# EAGLE library part M633 (library dec-m)
6 Dual Negative Bus Drivers
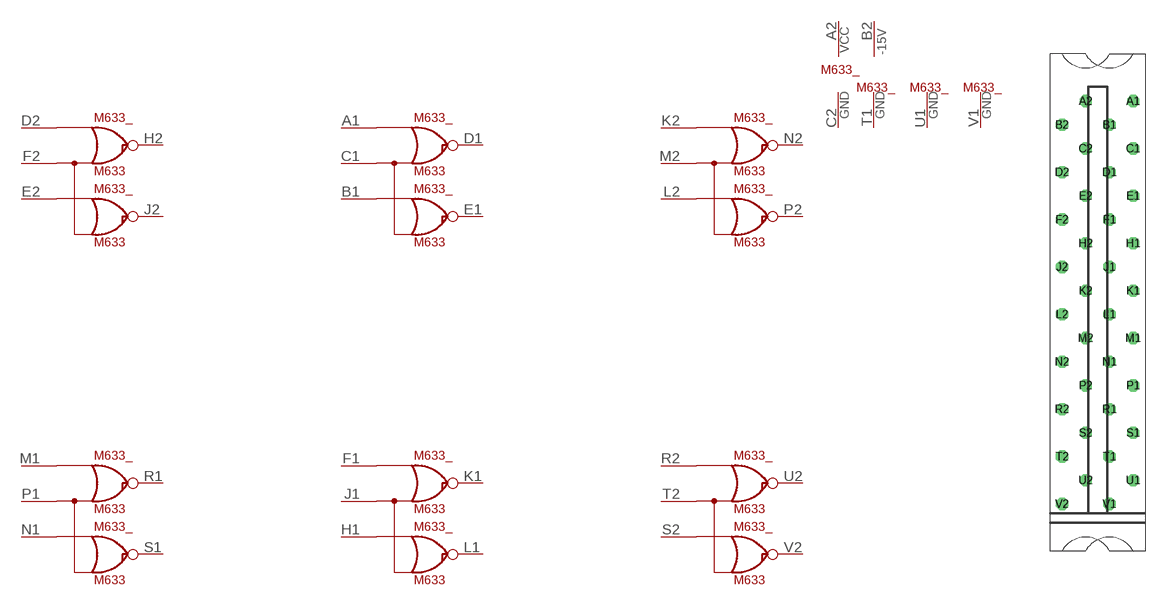
[diagram p20: symbol with the pads of H807; footprint H807]

Designator prefix M633_; gates D1=M633A K1=M633A R1=M633A H2=M633A N2=M633A U2=M633A G$7=POWER G$8=-15V G$9=T1GND G$10=T1GND G$11=T1GND

## M633  [H807]
A1  D1:A  in
A2  G$7:VCC  pwr
B1  D1:B  in
B2  G$8:-15V  pwr
C1  D1:C  in
C2  G$7:GND  pwr
D1  D1:D  out
D2  H2:A  in
E1  D1:E  out
E2  H2:B  in
F1  K1:A  in
F2  H2:C  in
H1  K1:B  in
H2  H2:D  out
J1  K1:C  in
J2  H2:E  out
K1  K1:D  out
K2  N2:A  in
L1  K1:E  out
L2  N2:B  in
M1  R1:A  in
M2  N2:C  in
N1  R1:B  in
N2  N2:D  out
P1  R1:C  in
P2  N2:E  out
R1  R1:D  out
R2  U2:A  in
S1  R1:E  out
S2  U2:B  in
T1  G$9:GND  pwr
T2  U2:C  in
U1  G$10:GND  pwr
U2  U2:D  out
V1  G$11:GND  pwr
V2  U2:E  out

## Footprint H807 (pad centres in mm)
One-wide female edge connector
drill 1.092 octagon: A1 4.763,28.575; A2 -1.587,28.575; B1 1.587,25.4; B2 -4.763,25.4; C1 4.763,22.225; C2 -1.587,22.225; D1 1.587,19.05; D2 -4.763,19.05; E1 4.763,15.875; E2 -1.587,15.875; F1 1.587,12.7; F2 -4.763,12.7; H1 4.763,9.525; H2 -1.587,9.525; J1 1.587,6.35; J2 -4.763,6.35; K1 4.763,3.175; K2 -1.587,3.175; L1 1.587,0; L2 -4.763,0; M1 4.763,-3.175; M2 -1.587,-3.175; N1 1.587,-6.35; N2 -4.763,-6.35; P1 4.763,-9.525; P2 -1.587,-9.525; R1 1.587,-12.7; R2 -4.763,-12.7; S1 4.763,-15.875; S2 -1.587,-15.875; T1 1.587,-19.05; T2 -4.763,-19.05; U1 4.763,-22.225; U2 -1.587,-22.225; V1 1.587,-25.4; V2 -4.763,-25.4